# EAGLE library part AP64352Q (library U-Linear)
AP64352Q [DIODES@AP64352QSP-13] DCDC CONV BUCK POL SO-8EP
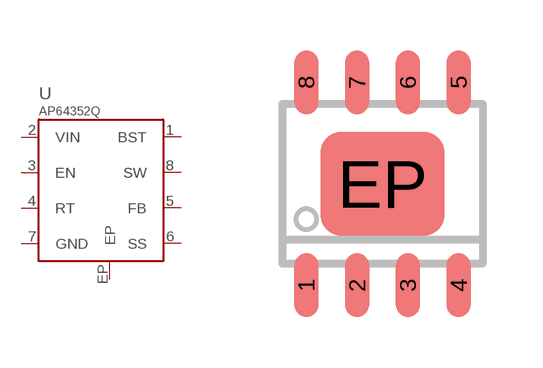
[diagram p5: symbol with the pads of SOIC8EP; footprint SOIC8EP]

Designator prefix U

## AP64352Q  [SOIC8EP]
1  BST  in
2  VIN  pwr
3  EN  in
4  RT  pas
5  FB  pas
6  SS  pas
7  GND  pwr
8  SW
EP  EP  pas

## Footprint SOIC8EP (pad centres in mm)
SO-8EP standard small outline package with narrow body and exposed pad
smd 0.6 x 1.6: 1 -1.905,-2.54; 2 -0.635,-2.54; 3 0.635,-2.54; 4 1.905,-2.54; 5 1.905,2.54; 6 0.635,2.54; 7 -0.635,2.54; 8 -1.905,2.54
smd 3.1 x 2.6: EP 0,0